# Altium footprint library eagle-ltspice.PCBLIB: 60 footprints (part 4 of 4)
Each footprint in its own frame and in the unit in brackets; x right, y up, seen from the top. Pads: shape width x height; smd on the part's side, far side on the other; paste and mask are expansions set on the pad; w line width, h text height; cw(c..) or ccw(c..) is an arc to the next point about the centre after c.
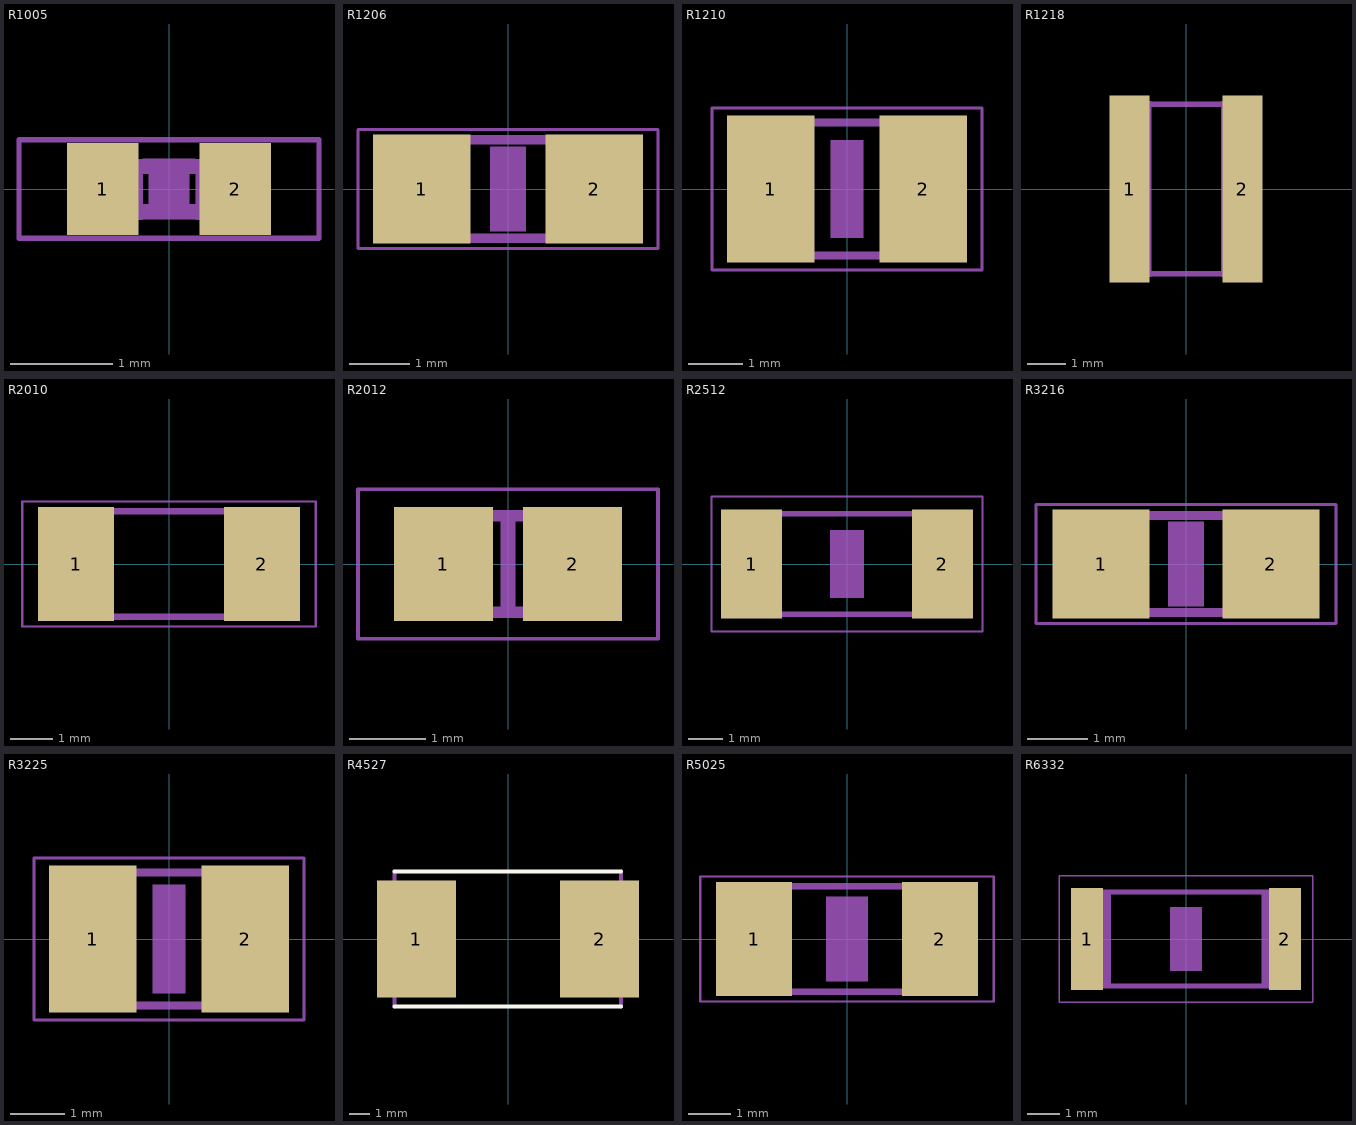
[diagram p3: the footprints below, top view; thin cyan lines are the x and y axes]

## R1005 [mm]
pads (2):
  rect 0.7x0.9 smd: 1(-0.65,0) 2(0.65,0)
Mechanical 6:
  rectangle: -0.2,-0.3 0.2,0.3
Mechanical 16:
  rectangle: -0.554,-0.305 -0.254,0.295
  rectangle: 0.259,-0.305 0.559,0.295
  lines w0.152: -0.245,-0.224 0.245,-0.224 ; -0.245,0.224 0.245,0.224
Mechanical 27:
  lines w0.051: -1.473,-0.483 1.473,-0.483 1.473,0.483 -1.473,0.483 -1.473,-0.483

## R1206 [mm]
pads (2):
  rect 1.6x1.803 smd: 1(-1.422,0) 2(1.422,0)
Mechanical 6:
  rectangle: -0.3,-0.7 0.3,0.7
Mechanical 16:
  rectangle: -1.689,-0.876 -0.953,0.876
  rectangle: 0.953,-0.876 1.689,0.876
  lines w0.152: -0.965,-0.813 0.953,-0.813 ; -0.965,0.813 0.953,0.813
Mechanical 27:
  lines w0.051: -2.473,-0.983 2.473,-0.983 2.473,0.983 -2.473,0.983 -2.473,-0.983

## R1210 [mm]
pads (2):
  rect 1.6x2.7 smd: 1(-1.4,0) 2(1.4,0)
Mechanical 6:
  rectangle: -0.3,-0.9 0.3,0.9
Mechanical 16:
  rectangle: -1.651,-1.308 -0.901,1.292
  rectangle: 0.914,-1.308 1.664,1.292
  lines w0.152: -0.913,-1.219 0.939,-1.219 ; -0.913,1.219 0.939,1.219
Mechanical 27:
  lines w0.051: -2.473,-1.483 2.473,-1.483 2.473,1.483 -2.473,1.483 -2.473,-1.483

## R1218 [mm]
pads (2):
  rect 1.05x4.9 smd: 1(-1.475,0) 2(1.475,0)
Mechanical 16:
  rectangle: -1.651,-2.3 -0.901,2.3
  rectangle: 0.914,-2.3 1.664,2.3
  lines w0.152: -0.939,2.219 0.913,2.219 ; -0.913,-2.219 0.939,-2.219

## R2010 [mm]
pads (2):
  rect 1.8x2.7 smd: 1(-2.2,0) 2(2.2,0)
Mechanical 16:
  rectangle: -2.489,-1.321 -1.639,1.329
  rectangle: 1.651,-1.321 2.501,1.329
  lines w0.152: -1.662,1.245 1.662,1.245 ; -1.637,-1.245 1.687,-1.245
Mechanical 27:
  lines w0.051: -3.473,-1.483 3.473,-1.483 3.473,1.483 -3.473,1.483 -3.473,-1.483

## R2012 [mm]
pads (2):
  rect 1.3x1.5 smd: 1(-0.85,0) 2(0.85,0)
Mechanical 6:
  rectangle: -0.1,-0.6 0.1,0.6
Mechanical 16:
  rectangle: 0.406,-0.699 1.056,0.702
  rectangle: -1.067,-0.699 -0.417,0.702
  lines w0.152: -0.41,-0.635 0.41,-0.635 ; -0.41,0.635 0.41,0.635
Mechanical 27:
  lines w0.051: -1.973,-0.983 1.973,-0.983 1.973,0.983 -1.973,0.983 -1.973,-0.983

## R2512 [mm]
pads (2):
  rect 1.8x3.2 smd: 1(-2.8,0) 2(2.8,0)
Mechanical 6:
  rectangle: -0.5,-1 0.5,1
Mechanical 16:
  rectangle: -3.2,-1.549 -2.351,1.551
  rectangle: 2.362,-1.549 3.212,1.551
  lines w0.152: -2.362,-1.473 2.387,-1.473 ; -2.362,1.473 2.387,1.473
Mechanical 27:
  lines w0.051: -3.973,-1.983 3.973,-1.983 3.973,1.983 -3.973,1.983 -3.973,-1.983

## R3216 [mm]
pads (2):
  rect 1.6x1.8 smd: 1(-1.4,0) 2(1.4,0)
Mechanical 6:
  rectangle: -0.3,-0.7 0.3,0.7
Mechanical 16:
  rectangle: -1.651,-0.876 -0.901,0.874
  rectangle: 0.889,-0.876 1.639,0.874
  lines w0.152: -0.913,-0.8 0.888,-0.8 ; -0.913,0.8 0.888,0.8
Mechanical 27:
  lines w0.051: -2.473,-0.983 2.473,-0.983 2.473,0.983 -2.473,0.983 -2.473,-0.983

## R3225 [mm]
pads (2):
  rect 1.6x2.7 smd: 1(-1.4,0) 2(1.4,0)
Mechanical 6:
  rectangle: -0.3,-1 0.3,1
Mechanical 16:
  rectangle: -1.651,-1.308 -0.901,1.292
  rectangle: 0.914,-1.308 1.664,1.292
  lines w0.152: -0.913,-1.219 0.939,-1.219 ; -0.913,1.219 0.939,1.219
Mechanical 27:
  lines w0.051: -2.473,-1.483 2.473,-1.483 2.473,1.483 -2.473,1.483 -2.473,-1.483

## R4527 [mm]
pads (2):
  rect 3.94x5.84 smd: 1(-4.575,0) 2(4.575,0)
Top Overlay:
  lines w0.203: -5.675,-3.375 5.65,-3.375 ; -5.675,3.375 5.65,3.375
Mechanical 16:
  lines w0.203: -5.675,-3.375 -5.675,3.375 ; 5.65,-3.375 5.65,3.375

## R5025 [mm]
pads (2):
  rect 1.8x2.7 smd: 1(-2.2,0) 2(2.2,0)
Mechanical 6:
  rectangle: -0.5,-1 0.5,1
Mechanical 16:
  rectangle: -2.489,-1.321 -1.639,1.329
  rectangle: 1.651,-1.321 2.501,1.329
  lines w0.152: -1.662,1.245 1.662,1.245 ; -1.637,-1.245 1.687,-1.245
Mechanical 27:
  lines w0.051: -3.473,-1.483 3.473,-1.483 3.473,1.483 -3.473,1.483 -3.473,-1.483

## R6332 [mm]
pads (2):
  rect 1x3.2 smd: 1(-3.1,0) 2(3.1,0)
Mechanical 6:
  rectangle: -0.5,-1 0.5,1
Mechanical 16:
  rectangle: -3.2,-1.549 -2.351,1.551
  rectangle: 2.362,-1.549 3.212,1.551
  lines w0.152: -2.362,-1.473 2.387,-1.473 ; -2.362,1.473 2.387,1.473
Mechanical 27:
  lines w0.051: -3.973,-1.983 3.973,-1.983 3.973,1.983 -3.973,1.983 -3.973,-1.983